# Altium footprint library USB_port.PcbLib: 1 footprints
Each footprint in its own frame and in the unit in brackets; x right, y up, seen from the top. Pads: shape width x height; smd on the part's side, far side on the other; paste and mask are expansions set on the pad; w line width, h text height; cw(c..) or ccw(c..) is an arc to the next point about the centre after c.
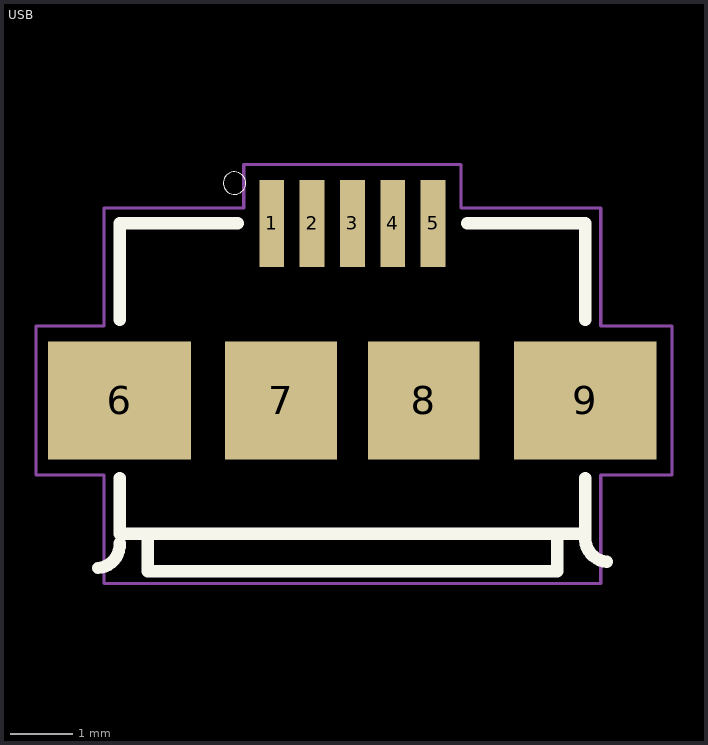
[diagram p0: the footprint, top view; thin cyan lines are the x and y axes]

## USB [mm]
pads (9):
  rect 0.4x1.4 smd: 1(11.654,10.851) 2(12.304,10.851) 3(12.954,10.851) 4(13.604,10.851) 5(14.254,10.851)
  rect 2.3x1.9 smd: 6(9.204,8.001) 9(16.704,8.001)
  rect 1.8x1.9 smd: 7(11.804,8.001) 8(14.104,8.001)
Top Overlay:
  circle w0: c11.054,11.501 r0.18
  lines w0.2: 8.855,5.301 ccw(c8.829,5.676) 9.204,5.702 ; 9.204,6.751 9.204,5.851 16.704,5.851 16.704,6.751 ; 9.204,9.301 9.204,10.851 11.104,10.851 ; 9.654,5.801 9.654,5.251 16.254,5.251 16.254,5.801 ; 14.804,10.851 16.704,10.851 16.704,9.301 ; 16.704,5.802 ccw(c17.079,5.776) 17.053,5.401
Mechanical 16:
  lines w0.05: 7.854,6.801 8.954,6.801 8.954,5.051 16.954,5.051 16.954,6.801 18.104,6.801 18.104,9.201 16.954,9.201 16.954,11.101 14.704,11.101 14.704,11.801 11.204,11.801 11.204,11.101 8.954,11.101 8.954,9.201 7.854,9.201 7.854,6.801